# EAGLE library part CAT24M01XI-T2 (library PP_DigitalIC)
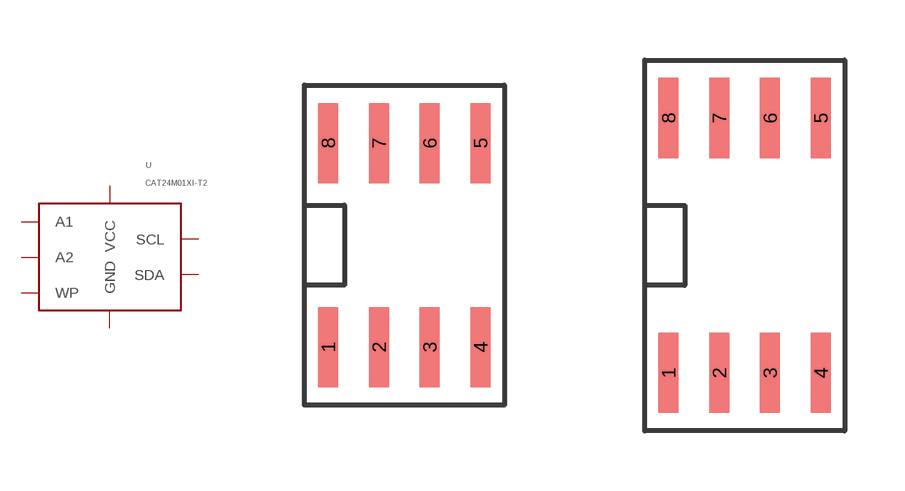
[diagram p7: symbol with the pads of SOIC-8; footprints SOIC-8, SOIC-8_W]

Designator prefix U

## CAT24M01XI-T2SOIC-8  [SOIC-8]
2  A1
3  A2
4  GND
5  SDA
6  SCL
7  WP
8  VCC

## CAT24M01XI-T2SOIC-8_W  [SOIC-8_W]
Pads as for SOIC-8

## CAT24M01XI-T2DIP-8  [DIP-8]
Pads as for SOIC-8

## Footprint SOIC-8 (pad centres in mm)
smd 0.5 x 2: 1 -1.905,-2.55; 2 -0.635,-2.55; 3 0.635,-2.55; 4 1.905,-2.55; 5 1.905,2.55; 6 0.635,2.55; 7 -0.635,2.55; 8 -1.905,2.55

## Footprint SOIC-8_W (pad centres in mm)
smd 0.5 x 2: 1 -1.905,-3.185; 2 -0.635,-3.185; 3 0.635,-3.185; 4 1.905,-3.185; 5 1.905,3.185; 6 0.635,3.185; 7 -0.635,3.185; 8 -1.905,3.185

## Footprint DIP-8 (pad centres in mm)
drill 0.9 pad 1.727: 1 -3.81,-3.81; 2 -1.27,-3.81; 3 1.27,-3.81; 4 3.81,-3.81; 5 3.81,3.81; 6 1.27,3.81; 7 -1.27,3.81; 8 -3.81,3.81